# EAGLE library part SNGTL2010 (library pepin)
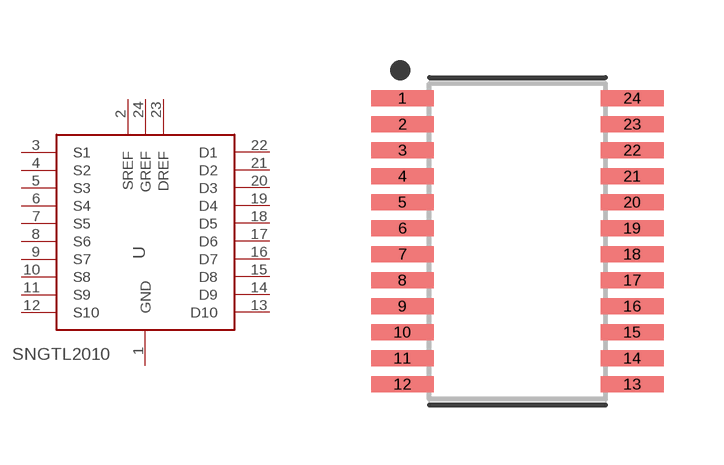
[diagram p2: symbol with the pads of SOP65P640X120-24; footprint SOP65P640X120-24]

Designator prefix U

## SNGTL201024-TSSOP  [SOP65P640X120-24]
1  GND  pwr
2  SREF  pwr
3  S1
4  S2
5  S3
6  S4
7  S5
8  S6
9  S7
10  S8
11  S9
12  S10
13  D10
14  D9
15  D8
16  D7
17  D6
18  D5
19  D4
20  D3
21  D2
22  D1
23  DREF  pwr
24  GREF  pwr

## Footprint SOP65P640X120-24 (pad centres in mm)
24-SOP, 0.65 mm pitch, 6.40 mm span, 7.80 X 4.35 X 1.20 mm body 24-pin SOP package with 0.65 mm pitch, 6.40 mm span with body size 7.80 X 4.35 X 1.20 mm
smd 1.572 x 0.407: 1 -2.872,3.575; 2 -2.872,2.925; 3 -2.872,2.275; 4 -2.872,1.625; 5 -2.872,0.975; 6 -2.872,0.325; 7 -2.872,-0.325; 8 -2.872,-0.975; 9 -2.872,-1.625; 10 -2.872,-2.275; 11 -2.872,-2.925; 12 -2.872,-3.575; 13 2.872,-3.575; 14 2.872,-2.925; 15 2.872,-2.275; 16 2.872,-1.625; 17 2.872,-0.975; 18 2.872,-0.325; 19 2.872,0.325; 20 2.872,0.975; 21 2.872,1.625; 22 2.872,2.275; 23 2.872,2.925; 24 2.872,3.575